# Altium schematic symbol library CPU_STM.SchLib: 336 symbols (part 2 of 6)
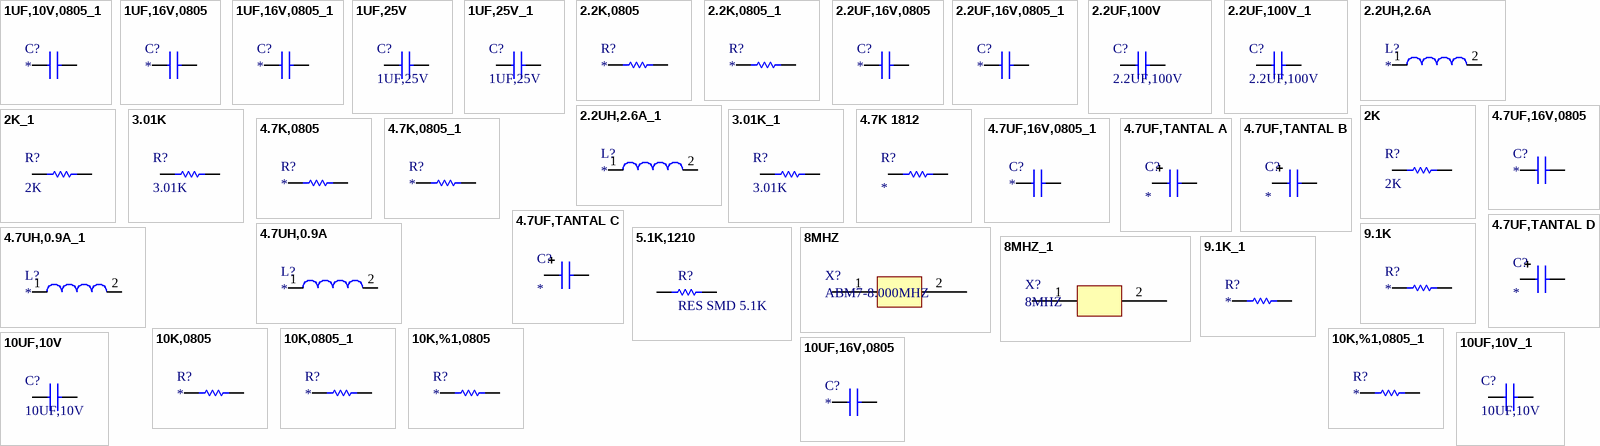
[diagram p20: symbols 1UF,10V,0805_1 to 10UF,16V,0805]

## 2K_1
designator R?, comment 2K
Thick Film Resistors - SMD 1/10watt 2.0Kohms 1%; Manufacturer: Vishay / Dale; Manufacturer Part Number: CRCW06032K00FKEA; Power Rating: 100 mW; Resistance: 2 kOhms; Temperature Coefficient: 100 PPM / K; Voltage Rating: 75 V; Case Height: 0.45 mm; Case Length: 1.55 mm; Case Width: 0.85 mm; Supplier 1: Mouser; RoHS: RoHS Compliant By Exemption; Category: Thick Film Resistors - SMD; Stock 1: 484813; Pricing 1: 1=0.119, 10=0.019, 100=0.015, 1000=0.012, 5000=0.007, 25000=0.006, 50000=0.004 (AUD); Operating Temperature Range: - 55 C to + 155 C; Package / Case: 0603 (1608 metric); Packaging: Reel; Product: Thick Film Resistors SMD; Series: CRCW; Tolerance: 1 %; Brand: Vishay / Dale; Case Code - in: 0603; Case Code - mm: 1608; Product Category: 0603 Thick Film Chip Resistors; Standard Pack Qty: 5000; RoHS - Mouser: E; Minimum Order Quantity: 1; Reeling: True; ComponentLink1URL: http://www.vishay.com/doc?20035; ComponentLink1Description: http://www.vishay.com/doc?20035; Supplier Part Number 1: 71-CRCW0603-2.0K-E3
footprint 0603 (0603_CC)
pins: 1, 2

## 3.01K
designator R?
Thick Film Resistors - SMD 1/10watt 3.01Kohms 1%; Manufacturer: Vishay / Dale; Manufacturer Part Number: CRCW06033K01FKEB; Power Rating: 100 mW; Temperature Coefficient: 100 PPM / K; Voltage Rating: 75 V; Case Height: 0.45 mm; Case Length: 1.55 mm; Case Width: 0.85 mm; Supplier 1: Mouser; RoHS: RoHS Compliant By Exemption; Category: Thick Film Resistors - SMD; Stock 1: 23974; Pricing 1: 1=0.119, 10=0.019, 100=0.015, 1000=0.012, 10000=0.007, 30000=0.006, 50000=0.004 (AUD); Operating Temperature Range: - 55 C to + 155 C; Package / Case: 0603 (1608 metric); Packaging: Reel; Product: Thick Film Resistors SMD; Resistance: 3.01 kOhms; Series: CRCW; Tolerance: 1 %; Brand: Vishay / Dale; Case Code - in: 0603; Case Code - mm: 1608; Product Category: 0603 Thick Film Chip Resistors; Standard Pack Qty: 10000; RoHS - Mouser: E; Minimum Order Quantity: 1; Reeling: True; ComponentLink1URL: http://www.vishay.com/doc?20035; ComponentLink1Description: http://www.vishay.com/doc?20035; Supplier Part Number 1: 71-CRCW06033K01FKEB
footprint 0603 (0603_CC)
pins: 1, 2

## 3.01K_1
designator R?, comment 3.01K
Thick Film Resistors - SMD 1/10watt 3.01Kohms 1%; Manufacturer: Vishay / Dale; Manufacturer Part Number: CRCW06033K01FKEB; Power Rating: 100 mW; Temperature Coefficient: 100 PPM / K; Voltage Rating: 75 V; Case Height: 0.45 mm; Case Length: 1.55 mm; Case Width: 0.85 mm; Supplier 1: Mouser; RoHS: RoHS Compliant By Exemption; Category: Thick Film Resistors - SMD; Stock 1: 23974; Pricing 1: 1=0.119, 10=0.019, 100=0.015, 1000=0.012, 10000=0.007, 30000=0.006, 50000=0.004 (AUD); Operating Temperature Range: - 55 C to + 155 C; Package / Case: 0603 (1608 metric); Packaging: Reel; Product: Thick Film Resistors SMD; Resistance: 3.01 kOhms; Series: CRCW; Tolerance: 1 %; Brand: Vishay / Dale; Case Code - in: 0603; Case Code - mm: 1608; Product Category: 0603 Thick Film Chip Resistors; Standard Pack Qty: 10000; RoHS - Mouser: E; Minimum Order Quantity: 1; Reeling: True; ComponentLink1URL: http://www.vishay.com/doc?20035; ComponentLink1Description: http://www.vishay.com/doc?20035; Supplier Part Number 1: 71-CRCW06033K01FKEB
footprint 0603 (0603_CC)
pins: 1, 2

## 4.7K 1812
designator R?
4.7K 1812
footprint 1812
pins: 1, 2

## 4.7K,0805
designator R?
BOURNS - CR0805-FX-4701GLF - RESISTOR, 4.7K, 0.125W, 1%; Product Range: BOURNS - CR Series; Resistance: 4.7; Power Rating: 125; Resistor Case Style: 0805 [2012 Metric]; Resistor Element Material: Thick Film; Temperature Coefficient: ± 100; Voltage Rating: 150; SVHC: No SVHC (16-Jun-2014); Resistor Mounting: SMD<!--FANDB--><div class="features-and-benefits-container"></div>; Supplier 1: Farnell; Manufacturer: BOURNS; Manufacturer Part Number: CR0805-FX-4701GLF; RoHS: YES; Stock 1: 20050; Pricing 1: 50=0,0312, 250=0,0247, 1000=0,0234, 5000=0,0156, 10000=0,0143 (EUR); Resistance Tolerance: ± 1%; Packaging: Cut Tape; MSL: MSL 1 - Unlimited; ComponentLink1URL: http://www.farnell.com/datasheets/1845293.pdf; ComponentLink1Description: http://www.farnell.com/datasheets/1845293.pdf; Supplier Part Number 1: 2008383
footprint R0805
pins: 1, 2

## 4.7K,0805_1
designator R?
BOURNS - CR0805-FX-4701GLF - RESISTOR, 4.7K, 0.125W, 1%; Product Range: BOURNS - CR Series; Resistance: 4.7; Power Rating: 125; Resistor Case Style: 0805 [2012 Metric]; Resistor Element Material: Thick Film; Temperature Coefficient: ± 100; Voltage Rating: 150; SVHC: No SVHC (16-Jun-2014); Resistor Mounting: SMD<!--FANDB--><div class="features-and-benefits-container"></div>; Supplier 1: Farnell; Manufacturer: BOURNS; Manufacturer Part Number: CR0805-FX-4701GLF; RoHS: YES; Stock 1: 20050; Pricing 1: 50=0,0312, 250=0,0247, 1000=0,0234, 5000=0,0156, 10000=0,0143 (EUR); Resistance Tolerance: ± 1%; Packaging: Cut Tape; MSL: MSL 1 - Unlimited; ComponentLink1URL: http://www.farnell.com/datasheets/1845293.pdf; ComponentLink1Description: http://www.farnell.com/datasheets/1845293.pdf; Supplier Part Number 1: 2008383
footprint R0805
pins: 1, 2

## 4.7UF,16V,0805
designator C?
AVX - 0805YC475KAT2A - CAP, MLCC, X7R, 4.7UF, 16V, 0805; Capacitance: 4.7; Capacitance Tolerance: ± 10%; Dielectric Characteristic: X7; Voltage Rating: 16; Ceramic Capacitor Case: 0805 [2012 Metric]; SVHC: No SVHC (16-Jun-2014); Capacitor Terminals: SMD; Supplier 1: Farnell; Manufacturer: AVX; Manufacturer Part Number: 0805YC475KAT2A; RoHS: YES; Stock 1: 22065; Pricing 1: 10=0,61, 100=0,43, 500=0,24, 1000=0,2, 2000=0,162 (EUR); Product Range: -; Operating Temperature Min: -55; Operating Temperature Max: 125; Packaging: Cut Tape; MSL: MSL 1 - Unlimited; Capacitance Tolerance ±: ± 10%; Capacitor Case Style: 0805 [2012 Metric]; Operating Temperature Range: -55°C to +125; Series: MLCC<!--FANDB--><div class="features-and-benefits-container"></div>; ComponentLink1URL: http://www.farnell.com/datasheets/1679506.pdf; ComponentLink1Description: http://www.farnell.com/datasheets/1679506.pdf; ComponentLink2URL: http://www.farnell.com/cad/1614401.zip; ComponentLink2Description: http://www.farnell.com/cad/1614401.zip; Supplier Part Number 1: 1657937RL
footprint C0805
pins: 1, 2

## 4.7UF,16V,0805_1
designator C?
AVX - 0805YC475KAT2A - CAP, MLCC, X7R, 4.7UF, 16V, 0805; Capacitance: 4.7; Capacitance Tolerance: ± 10%; Dielectric Characteristic: X7; Voltage Rating: 16; Ceramic Capacitor Case: 0805 [2012 Metric]; SVHC: No SVHC (16-Jun-2014); Capacitor Terminals: SMD; Supplier 1: Farnell; Manufacturer: AVX; Manufacturer Part Number: 0805YC475KAT2A; RoHS: YES; Stock 1: 22065; Pricing 1: 10=0,61, 100=0,43, 500=0,24, 1000=0,2, 2000=0,162 (EUR); Product Range: -; Operating Temperature Min: -55; Operating Temperature Max: 125; Packaging: Cut Tape; MSL: MSL 1 - Unlimited; Capacitance Tolerance ±: ± 10%; Capacitor Case Style: 0805 [2012 Metric]; Operating Temperature Range: -55°C to +125; Series: MLCC<!--FANDB--><div class="features-and-benefits-container"></div>; ComponentLink1URL: http://www.farnell.com/datasheets/1679506.pdf; ComponentLink1Description: http://www.farnell.com/datasheets/1679506.pdf; ComponentLink2URL: http://www.farnell.com/cad/1614401.zip; ComponentLink2Description: http://www.farnell.com/cad/1614401.zip; Supplier Part Number 1: 1657937RL
footprint C0805
pins: 1, 2

## 4.7UF,TANTAL A
designator C?
footprint Case_A
pins: 1, 2

## 4.7UF,TANTAL B
designator C?
footprint Case_B
pins: 1, 2

## 4.7UF,TANTAL C
designator C?
footprint Case_C
pins: 1, 2

## 4.7UF,TANTAL D
designator C?
footprint Case_D
pins: 1, 2

## 4.7UH,0.9A
designator L?
INDUCTOR 4.7UH 900MA SMD; Manufacturer: Bourns Inc.; Manufacturer Part Number: SRU2013-4R7Y; Type: Wirewound; Material - Core: Ferrite; Inductance: 4.7µH; Tolerance: ±30%; Current - Saturation: 750mA; Shielding: Shielded; DC Resistance (DCR): 220 mOhm Max; Q @ Freq: 10 @ 7.96MHz; Frequency - Self Resonant: 72MHz; Frequency - Test: 100kHz; Supplier 1: Digi-Key; RoHS: RoHS Compliant; Category: Inductors, Coils, Chokes; Stock 1: 2110; Pricing 1: 1=0.68, 10=0.608, 25=0.57, 50=0.494, 100=0.456, 250=0.4332, 500=0.3952 (USD); Packaging: Cut Tape (CT); Current Rating: 900mA; Operating Temperature: -40°C ~ 125°C; Mounting Type: Surface Mount; Package / Case: Non Standard; Size / Dimension: 0.110" L x 0.110" W (2.80mm x 2.80mm); Height - Seated (Max): 0.059" (1.50mm); Supplier Device Package: -; ComponentLink1URL: http://www.bourns.com/data/global/pdfs/SRU2013.pdf; ComponentLink1Description: http://www.bourns.com/data/global/pdfs/SRU2013.pdf; Supplier Part Number 1: SRU2013-4R7YCT-ND
footprint 4.7UH
pins: 1, 2

## 4.7UH,0.9A_1
designator L?
INDUCTOR 4.7UH 900MA SMD; Manufacturer: Bourns Inc.; Manufacturer Part Number: SRU2013-4R7Y; Type: Wirewound; Material - Core: Ferrite; Inductance: 4.7µH; Tolerance: ±30%; Current - Saturation: 750mA; Shielding: Shielded; DC Resistance (DCR): 220 mOhm Max; Q @ Freq: 10 @ 7.96MHz; Frequency - Self Resonant: 72MHz; Frequency - Test: 100kHz; Supplier 1: Digi-Key; RoHS: RoHS Compliant; Category: Inductors, Coils, Chokes; Stock 1: 2110; Pricing 1: 1=0.68, 10=0.608, 25=0.57, 50=0.494, 100=0.456, 250=0.4332, 500=0.3952 (USD); Packaging: Cut Tape (CT); Current Rating: 900mA; Operating Temperature: -40°C ~ 125°C; Mounting Type: Surface Mount; Package / Case: Non Standard; Size / Dimension: 0.110" L x 0.110" W (2.80mm x 2.80mm); Height - Seated (Max): 0.059" (1.50mm); Supplier Device Package: -; ComponentLink1URL: http://www.bourns.com/data/global/pdfs/SRU2013.pdf; ComponentLink1Description: http://www.bourns.com/data/global/pdfs/SRU2013.pdf; Supplier Part Number 1: SRU2013-4R7YCT-ND
footprint 4.7UH
pins: 1, 2

## 5.1K,1210
designator R?, comment RES SMD 5.1K
RES SMD 5.1K OHM 5% 1/2W 1210; Manufacturer: Panasonic Electronic Components; Manufacturer Part Number: ERJ-14YJ512U; Power (Watts): 0.5W, 1/2W; Temperature Coefficient: ±200ppm/°C; Supplier 1: Digi-Key; RoHS: RoHS Compliant; Category: Resistors; Stock 1: 20000; Pricing 1: 5000=0.018, 10000=0.0168, 25000=0.01596, 50000=0.01564, 125000=0.0153 (USD); Packaging: Tape & Reel (TR); Resistance (Ohms): 5.1k; Tolerance: ±5%; Composition: Thick Film; Features: Automotive AEC-Q200; Operating Temperature: -55°C ~ 155°C; Package / Case: 1210 (3225 Metric); Supplier Device Package: 1210; Size / Dimension: 0.126" L x 0.098" W (3.20mm x 2.50mm); Height: 0.028" (0.70mm); Number of Terminations: 2; ComponentLink1URL: http://industrial.panasonic.com/www-cgi/jvcr13pz.cgi?E+PZ+3+AOA0001+ERJ14YJ512U+7+WW; ComponentLink1Description: http://industrial.panasonic.com/www-cgi/jvcr13pz.cgi?E+PZ+3+AOA0001+ERJ14YJ512U+7+WW; Supplier Part Number 1: P5.1KVTR-ND
footprint R1210
pins: 1, 2

## 8MHZ
designator X?, comment ABM7-8.000MHZ
CRYSTAL 8.0000MHZ 18PF SMD; Manufacturer: Abracon LLC; Manufacturer Part Number: ABM7-8.000MHZ-D2Y-T; Frequency: 8MHz; Frequency Stability: ±30ppm; Frequency Tolerance: ±20ppm; ESR (Equivalent Series Resistance): 100 Ohm; Operating Mode: Fundamental; Supplier 1: Digi-Key; RoHS: RoHS Compliant; Category: Crystals and Oscillators; Stock 1: 111842; Pricing 1: 1=0.76, 10=0.678, 50=0.6328, 100=0.56, 500=0.5292 (USD); Packaging: Cut Tape (CT); Type: MHz Crystal; Load Capacitance: 18pF; Operating Temperature: -40°C ~ 85°C; Ratings: -; Mounting Type: Surface Mount; Package / Case: 2-SMD, No Lead (DFN, LCC); Size / Dimension: 0.236" L x 0.138" W (6.00mm x 3.50mm); Height: 0.055" (1.40mm); ComponentLink1URL: http://www.abracon.com/Resonators/abm7.pdf; ComponentLink1Description: http://www.abracon.com/Resonators/abm7.pdf; Supplier Part Number 1: 535-9831-1-ND
footprint cristal
pins: 1, 2

## 8MHZ_1
designator X?, comment 8MHZ
footprint cristal
pins: 1, 2

## 9.1K
designator R?
RES 9.1K OHM 1/8W 1% 0805 SMD; Manufacturer: Panasonic Electronic Components; Manufacturer Part Number: ERJ-6ENF9101V; Power (Watts): 0.125W, 1/8W; Temperature Coefficient: ±100ppm/°C; Supplier 1: Digi-Key; RoHS: RoHS Compliant; Category: Resistors; Stock 1: 35000; Pricing 1: 5000=0.00475, 10000=0.00413, 25000=0.00363, 50000=0.00333, 125000=0.00326 (USD); Packaging: Tape & Reel (TR); Resistance (Ohms): 9.1k; Tolerance: ±1%; Composition: Thick Film; Features: Automotive AEC-Q200 Qualified; Package / Case: 0805 (2012 Metric); Supplier Device Package: 0805; Size / Dimension: 0.079" L x 0.049" W (2.00mm x 1.25mm); Height: 0.028" (0.70mm); Number of Terminations: 2; ComponentLink1URL: http://industrial.panasonic.com/www-cgi/jvcr13pz.cgi?E+PZ+3+AOA0002+ERJ6ENF9101V+7+WW; ComponentLink1Description: http://industrial.panasonic.com/www-cgi/jvcr13pz.cgi?E+PZ+3+AOA0002+ERJ6ENF9101V+7+WW; Supplier Part Number 1: P9.10KCTR-ND
footprint R0805
pins: 1, 2

## 9.1K_1
designator R?
RES 9.1K OHM 1/8W 1% 0805 SMD; Manufacturer: Panasonic Electronic Components; Manufacturer Part Number: ERJ-6ENF9101V; Power (Watts): 0.125W, 1/8W; Temperature Coefficient: ±100ppm/°C; Supplier 1: Digi-Key; RoHS: RoHS Compliant; Category: Resistors; Stock 1: 35000; Pricing 1: 5000=0.00475, 10000=0.00413, 25000=0.00363, 50000=0.00333, 125000=0.00326 (USD); Packaging: Tape & Reel (TR); Resistance (Ohms): 9.1k; Tolerance: ±1%; Composition: Thick Film; Features: Automotive AEC-Q200 Qualified; Package / Case: 0805 (2012 Metric); Supplier Device Package: 0805; Size / Dimension: 0.079" L x 0.049" W (2.00mm x 1.25mm); Height: 0.028" (0.70mm); Number of Terminations: 2; ComponentLink1URL: http://industrial.panasonic.com/www-cgi/jvcr13pz.cgi?E+PZ+3+AOA0002+ERJ6ENF9101V+7+WW; ComponentLink1Description: http://industrial.panasonic.com/www-cgi/jvcr13pz.cgi?E+PZ+3+AOA0002+ERJ6ENF9101V+7+WW; Supplier Part Number 1: P9.10KCTR-ND
footprint R0805
pins: 1, 2

## 10K,0805
designator R?
BOURNS - CR0805-FX-1002GLF - RESISTOR, 10K, 0.125W, 1%; Product Range: BOURNS - CR Series; Resistance: 10; Power Rating: 125; Resistor Case Style: 0805 [2012 Metric]; Resistor Element Material: Thick Film; Temperature Coefficient: ± 100; Voltage Rating: 150; SVHC: No SVHC (16-Jun-2014); Resistor Mounting: SMD<!--FANDB--><div class="features-and-benefits-container"></div>; Supplier 1: Farnell; Manufacturer: BOURNS; Manufacturer Part Number: CR0805-FX-1002GLF; RoHS: YES; Stock 1: 23336; Pricing 1: 50=0,0299, 250=0,0234, 1000=0,0221, 5000=0,0156, 10000=0,0143 (EUR); Resistance Tolerance: ± 1%; Packaging: Cut Tape; MSL: MSL 1 - Unlimited; ComponentLink1URL: http://www.farnell.com/datasheets/1845293.pdf; ComponentLink1Description: http://www.farnell.com/datasheets/1845293.pdf; Supplier Part Number 1: 2008384
footprint R0805
pins: 1, 2

## 10K,0805_1
designator R?
BOURNS - CR0805-FX-1002GLF - RESISTOR, 10K, 0.125W, 1%; Product Range: BOURNS - CR Series; Resistance: 10; Power Rating: 125; Resistor Case Style: 0805 [2012 Metric]; Resistor Element Material: Thick Film; Temperature Coefficient: ± 100; Voltage Rating: 150; SVHC: No SVHC (16-Jun-2014); Resistor Mounting: SMD<!--FANDB--><div class="features-and-benefits-container"></div>; Supplier 1: Farnell; Manufacturer: BOURNS; Manufacturer Part Number: CR0805-FX-1002GLF; RoHS: YES; Stock 1: 23336; Pricing 1: 50=0,0299, 250=0,0234, 1000=0,0221, 5000=0,0156, 10000=0,0143 (EUR); Resistance Tolerance: ± 1%; Packaging: Cut Tape; MSL: MSL 1 - Unlimited; ComponentLink1URL: http://www.farnell.com/datasheets/1845293.pdf; ComponentLink1Description: http://www.farnell.com/datasheets/1845293.pdf; Supplier Part Number 1: 2008384
footprint R0805
pins: 1, 2

## 10K,%1,0805
designator R?
WELWYN - CR0805F-10KFI - RESISTOR, CHIP, 10K, 0.125W, 1%; Supplier 1: Farnell; Manufacturer: WELWYN; Manufacturer Part Number: CR0805F-10KFI; RoHS: YES; Stock 1: 246; Pricing 1: 1=0,988, 50=0,884, 100=0,832, 500=0,78, 1000=0,741 (EUR); ComponentLink1URL: http://www.farnell.com/datasheets/1720562.pdf; ComponentLink1Description: http://www.farnell.com/datasheets/1720562.pdf; Supplier Part Number 1: 2341038
footprint R0805
pins: 1, 2

## 10K,%1,0805_1
designator R?
WELWYN - CR0805F-10KFI - RESISTOR, CHIP, 10K, 0.125W, 1%; Supplier 1: Farnell; Manufacturer: WELWYN; Manufacturer Part Number: CR0805F-10KFI; RoHS: YES; Stock 1: 246; Pricing 1: 1=0,988, 50=0,884, 100=0,832, 500=0,78, 1000=0,741 (EUR); ComponentLink1URL: http://www.farnell.com/datasheets/1720562.pdf; ComponentLink1Description: http://www.farnell.com/datasheets/1720562.pdf; Supplier Part Number 1: 2341038
footprint R0805
pins: 1, 2

## 10UF,10V
designator C?
Multilayer Ceramic Capacitors MLCC - SMD/SMT 0805 10uF 10volts X7R 10%; Manufacturer: Murata Electronics; Manufacturer Part Number: GRM21BR71A106KE51L; Type: General Purpose MLCC; Case Height: 1.25 mm; Case Length: 2 mm; Temperature Coefficient / Code: +/- 15 %; Supplier 1: Mouser; RoHS: RoHS Compliant; Category: Multilayer Ceramic Capacitors MLCC - SMD/SMT; Stock 1: 248046; Pricing 1: 1=0.876, 10=0.506, 100=0.310, 1000=0.285, 3000=0.177, 9000=0.174, 24000=0.162 (AUD); Capacitance: 10 uF; Operating Temperature Range: - 55 C to + 125 C; Package / Case: 0805 (2012 metric); Packaging: Reel; Product: General Type MLCCs; Series: GRM; Termination Style: SMD/SMT; Tolerance: 10 %; Voltage Rating DC: 10 V; Brand: Murata Electronics; Case Code - in: 0805; Case Code - mm: 2012; Case Width: 1.25 mm; Dielectric: X7R; Maximum Operating Temperature: + 125 C; Minimum Operating Temperature: - 55 C; Product Category: High Capacitance SMD Ceramic Chip Capacitors; Standard Pack Qty: 3000; RoHS - Mouser: Y; Minimum Order Quantity: 1; Reeling: True; ComponentLink1URL: http://www.mouser.com/ds/2/281/c02e-2905.pdf; ComponentLink1Description: http://www.mouser.com/ds/2/281/c02e-2905.pdf; Supplier Part Number 1: 81-GRM21BR71A106KE51
footprint 0805
pins: 1, 2

## 10UF,10V_1
designator C?, comment 10UF,10V
Multilayer Ceramic Capacitors MLCC - SMD/SMT 0805 10uF 10volts X7R 10%; Manufacturer: Murata Electronics; Manufacturer Part Number: GRM21BR71A106KE51L; Type: General Purpose MLCC; Case Height: 1.25 mm; Case Length: 2 mm; Temperature Coefficient / Code: +/- 15 %; Supplier 1: Mouser; RoHS: RoHS Compliant; Category: Multilayer Ceramic Capacitors MLCC - SMD/SMT; Stock 1: 248046; Pricing 1: 1=0.876, 10=0.506, 100=0.310, 1000=0.285, 3000=0.177, 9000=0.174, 24000=0.162 (AUD); Capacitance: 10 uF; Operating Temperature Range: - 55 C to + 125 C; Package / Case: 0805 (2012 metric); Packaging: Reel; Product: General Type MLCCs; Series: GRM; Termination Style: SMD/SMT; Tolerance: 10 %; Voltage Rating DC: 10 V; Brand: Murata Electronics; Case Code - in: 0805; Case Code - mm: 2012; Case Width: 1.25 mm; Dielectric: X7R; Maximum Operating Temperature: + 125 C; Minimum Operating Temperature: - 55 C; Product Category: High Capacitance SMD Ceramic Chip Capacitors; Standard Pack Qty: 3000; RoHS - Mouser: Y; Minimum Order Quantity: 1; Reeling: True; ComponentLink1URL: http://www.mouser.com/ds/2/281/c02e-2905.pdf; ComponentLink1Description: http://www.mouser.com/ds/2/281/c02e-2905.pdf; Supplier Part Number 1: 81-GRM21BR71A106KE51
footprint 0805
pins: 1, 2

## 10UF,16V,0805
designator C?
AVX - 0805YD106KAT2A - CAP, MLCC, X5R, 10UF, 16V, 0805; Capacitance: 10; Capacitance Tolerance: ± 10%; Dielectric Characteristic: X5; Voltage Rating: 16; Ceramic Capacitor Case: 0805 [2012 Metric]; SVHC: No SVHC (16-Jun-2014); Capacitor Terminals: SMD; Supplier 1: Farnell; Manufacturer: AVX; Manufacturer Part Number: 0805YD106KAT2A; RoHS: YES; Stock 1: 32118; Pricing 1: 10=0,25, 100=0,23, 500=0,21, 1000=0,182, 2000=0,162 (EUR); Product Range: -; Operating Temperature Min: -55; Operating Temperature Max: 85; Packaging: Cut Tape; MSL: MSL 1 - Unlimited; Capacitance Tolerance ±: ± 10%; Capacitor Case Style: 0805 [2012 Metric]; Operating Temperature Range: -55°C to +85; Series: MLCC<!--FANDB--><div class="features-and-benefits-container"></div>; ComponentLink1URL: http://www.farnell.com/datasheets/1666675.pdf; ComponentLink1Description: http://www.farnell.com/datasheets/1666675.pdf; ComponentLink2URL: http://www.farnell.com/cad/1614404.zip; ComponentLink2Description: http://www.farnell.com/cad/1614404.zip; Supplier Part Number 1: 1658880RL
footprint 0805
pins: 1, 2

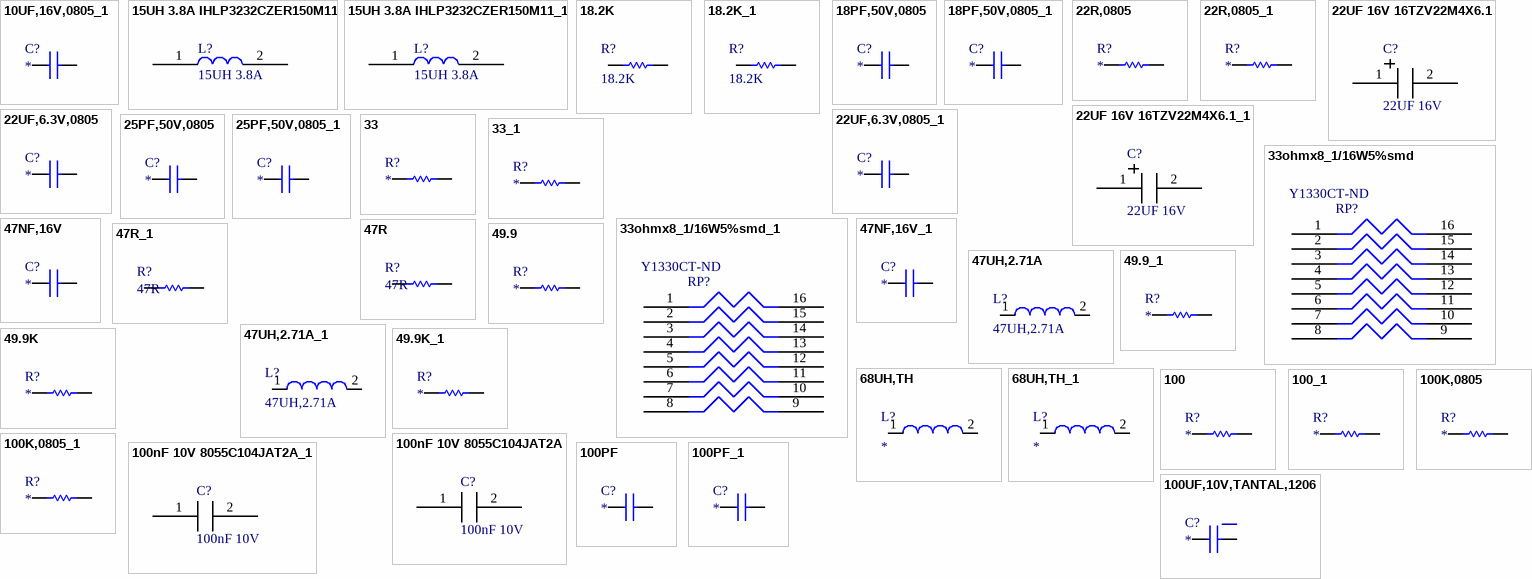
[diagram p2: symbols 10UF,16V,0805_1 to 100UF,10V,TANTAL,1206]

## 10UF,16V,0805_1
designator C?
AVX - 0805YD106KAT2A - CAP, MLCC, X5R, 10UF, 16V, 0805; Capacitance: 10; Capacitance Tolerance: ± 10%; Dielectric Characteristic: X5; Voltage Rating: 16; Ceramic Capacitor Case: 0805 [2012 Metric]; SVHC: No SVHC (16-Jun-2014); Capacitor Terminals: SMD; Supplier 1: Farnell; Manufacturer: AVX; Manufacturer Part Number: 0805YD106KAT2A; RoHS: YES; Stock 1: 32118; Pricing 1: 10=0,25, 100=0,23, 500=0,21, 1000=0,182, 2000=0,162 (EUR); Product Range: -; Operating Temperature Min: -55; Operating Temperature Max: 85; Packaging: Cut Tape; MSL: MSL 1 - Unlimited; Capacitance Tolerance ±: ± 10%; Capacitor Case Style: 0805 [2012 Metric]; Operating Temperature Range: -55°C to +85; Series: MLCC<!--FANDB--><div class="features-and-benefits-container"></div>; ComponentLink1URL: http://www.farnell.com/datasheets/1666675.pdf; ComponentLink1Description: http://www.farnell.com/datasheets/1666675.pdf; ComponentLink2URL: http://www.farnell.com/cad/1614404.zip; ComponentLink2Description: http://www.farnell.com/cad/1614404.zip; Supplier Part Number 1: 1658880RL
footprint 0805
pins: 1, 2

## 15UH 3.8A IHLP3232CZER150M11
designator L?, comment 15UH 3.8A
VISHAY DALE - IHLP3232CZER150M11 - INDUCTOR, IHLP-3232CZ-11, 15UH 20%; Supplier 1: Farnell; Manufacturer: VISHAY DALE; Manufacturer Part Number: IHLP3232CZER150M11; RoHS: YES; Stock 1: 86; Pricing 1: 1=2,24, 10=1,52, 50=1,4, 100=1,24, 250=1,09 (EUR); ComponentLink1URL: http://www.vishay.com/docs/34321/ihlp3232cz11.pdf; ComponentLink1Description: http://www.vishay.com/docs/34321/ihlp3232cz11.pdf; Supplier Part Number 1: 2056556
footprint indkrt_2
pins: 1, 2

## 15UH 3.8A IHLP3232CZER150M11_1
designator L?, comment 15UH 3.8A
VISHAY DALE - IHLP3232CZER150M11 - INDUCTOR, IHLP-3232CZ-11, 15UH 20%; Supplier 1: Farnell; Manufacturer: VISHAY DALE; Manufacturer Part Number: IHLP3232CZER150M11; RoHS: YES; Stock 1: 86; Pricing 1: 1=2,24, 10=1,52, 50=1,4, 100=1,24, 250=1,09 (EUR); ComponentLink1URL: http://www.vishay.com/docs/34321/ihlp3232cz11.pdf; ComponentLink1Description: http://www.vishay.com/docs/34321/ihlp3232cz11.pdf; Supplier Part Number 1: 2056556
footprint indkrt_2
pins: 1, 2

## 18.2K
designator R?
Thick Film Resistors - SMD 1/10watt 18.2Kohms 1%; Manufacturer: Vishay / Dale; Manufacturer Part Number: CRCW060318K2FKEA; Power Rating: 100 mW; Temperature Coefficient: 100 PPM / K; Voltage Rating: 75 V; Case Height: 0.45 mm; Case Length: 1.55 mm; Case Width: 0.85 mm; Supplier 1: Mouser; RoHS: RoHS Compliant By Exemption; Category: Thick Film Resistors - SMD; Stock 1: 22473; Pricing 1: 1=0.119, 10=0.019, 100=0.015, 1000=0.012, 5000=0.007, 25000=0.006, 50000=0.004 (AUD); Operating Temperature Range: - 55 C to + 155 C; Package / Case: 0603 (1608 metric); Packaging: Reel; Product: Thick Film Resistors SMD; Resistance: 18.2 kOhms; Series: CRCW; Tolerance: 1 %; Brand: Vishay / Dale; Case Code - in: 0603; Case Code - mm: 1608; Product Category: 0603 Thick Film Chip Resistors; Standard Pack Qty: 5000; RoHS - Mouser: E; Minimum Order Quantity: 1; Reeling: True; ComponentLink1URL: http://www.vishay.com/doc?20035; ComponentLink1Description: http://www.vishay.com/doc?20035; Supplier Part Number 1: 71-CRCW0603-18.2K-E3
footprint 0603 (0603_CC)
pins: 1, 2

## 18.2K_1
designator R?, comment 18.2K
Thick Film Resistors - SMD 1/10watt 18.2Kohms 1%; Manufacturer: Vishay / Dale; Manufacturer Part Number: CRCW060318K2FKEA; Power Rating: 100 mW; Temperature Coefficient: 100 PPM / K; Voltage Rating: 75 V; Case Height: 0.45 mm; Case Length: 1.55 mm; Case Width: 0.85 mm; Supplier 1: Mouser; RoHS: RoHS Compliant By Exemption; Category: Thick Film Resistors - SMD; Stock 1: 22473; Pricing 1: 1=0.119, 10=0.019, 100=0.015, 1000=0.012, 5000=0.007, 25000=0.006, 50000=0.004 (AUD); Operating Temperature Range: - 55 C to + 155 C; Package / Case: 0603 (1608 metric); Packaging: Reel; Product: Thick Film Resistors SMD; Resistance: 18.2 kOhms; Series: CRCW; Tolerance: 1 %; Brand: Vishay / Dale; Case Code - in: 0603; Case Code - mm: 1608; Product Category: 0603 Thick Film Chip Resistors; Standard Pack Qty: 5000; RoHS - Mouser: E; Minimum Order Quantity: 1; Reeling: True; ComponentLink1URL: http://www.vishay.com/doc?20035; ComponentLink1Description: http://www.vishay.com/doc?20035; Supplier Part Number 1: 71-CRCW0603-18.2K-E3
footprint 0603 (0603_CC)
pins: 1, 2

## 18PF,50V,0805
designator C?
MULTICOMP - MC0805N180J500CT - CAP, MLCC, C0G/NP0, 18PF, 50V,0805, REEL; Product Range: MULTICOMP - MC Series; Capacitance: 18; Capacitance Tolerance: ± 5%; Voltage Rating: 50; Ceramic Capacitor Case: 0805 [2012 Metric]; Capacitor Terminals: SMD; Reel Quantity: 4000; Supplier 1: Farnell; Manufacturer: MULTICOMP; Manufacturer Part Number: MC0805N180J500CT; RoHS: YES; Pricing 1: 4000=0,0072, 20000=0,0063, 40000=0,0055 (EUR); Dielectric Characteristic: C0G / NP0; Operating Temperature Min: -55; Operating Temperature Max: 125; Packaging: Tape & Reel; MSL: -; Capacitance Tolerance ±: ± 5%; Capacitor Case Style: 0805 [2012 Metric]; ComponentLink1URL: http://www.farnell.com/datasheets/1792107.pdf; ComponentLink1Description: http://www.farnell.com/datasheets/1792107.pdf; Supplier Part Number 1: 2310683
footprint C0805
pins: 1, 2

## 18PF,50V,0805_1
designator C?
MULTICOMP - MC0805N180J500CT - CAP, MLCC, C0G/NP0, 18PF, 50V,0805, REEL; Product Range: MULTICOMP - MC Series; Capacitance: 18; Capacitance Tolerance: ± 5%; Voltage Rating: 50; Ceramic Capacitor Case: 0805 [2012 Metric]; Capacitor Terminals: SMD; Reel Quantity: 4000; Supplier 1: Farnell; Manufacturer: MULTICOMP; Manufacturer Part Number: MC0805N180J500CT; RoHS: YES; Pricing 1: 4000=0,0072, 20000=0,0063, 40000=0,0055 (EUR); Dielectric Characteristic: C0G / NP0; Operating Temperature Min: -55; Operating Temperature Max: 125; Packaging: Tape & Reel; MSL: -; Capacitance Tolerance ±: ± 5%; Capacitor Case Style: 0805 [2012 Metric]; ComponentLink1URL: http://www.farnell.com/datasheets/1792107.pdf; ComponentLink1Description: http://www.farnell.com/datasheets/1792107.pdf; Supplier Part Number 1: 2310683
footprint C0805
pins: 1, 2

## 22R,0805
designator R?
PANASONIC - ERJP06F22R0V - RESISTOR, THICK FILM, 22 OHM, 0.5W, 1%; Product Range: PANASONIC - ERJ Series; Resistance: 22; Power Rating: 500; Resistor Case Style: 0805 [2012 Metric]; Temperature Coefficient: ± 300; Voltage Rating: 400; SVHC: No SVHC (16-Dec-2013); External Depth: 1.25; External Length / Height: 0.6; External Width: 2; Overload Voltage: 600; Reel Quantity: 5000; Resistor Mounting: SMD; Supplier 1: Farnell; Manufacturer: PANASONIC; Manufacturer Part Number: ERJP06F22R0V; RoHS: YES; Stock 1: 4425; Pricing 1: 25=0,139, 100=0,113, 500=0,0897, 1000=0,0676, 5000=0,065 (EUR); Resistance Tolerance: ± 1%; Resistor Element Material: Thick Film; Packaging: Cut Tape; MSL: -; No. of Pins: 2; Operating Temperature Max: 155; Operating Temperature Min: -55; Operating Temperature Range: -55°C to +155; Series: ERJP<!--FANDB--><div class="features-and-benefits-container"></div>; ComponentLink1URL: http://www.farnell.com/datasheets/1801181.pdf; ComponentLink1Description: http://www.farnell.com/datasheets/1801181.pdf; ComponentLink2URL: http://www.farnell.com/datasheets/1718548.pdf; ComponentLink2Description: http://www.farnell.com/datasheets/1718548.pdf; ComponentLink3URL: http://www.farnell.com/cad/1697897.zip; ComponentLink3Description: http://www.farnell.com/cad/1697897.zip; Supplier Part Number 1: 1750733
footprint R0805
pins: 1, 2

## 22R,0805_1
designator R?
PANASONIC - ERJP06F22R0V - RESISTOR, THICK FILM, 22 OHM, 0.5W, 1%; Product Range: PANASONIC - ERJ Series; Resistance: 22; Power Rating: 500; Resistor Case Style: 0805 [2012 Metric]; Temperature Coefficient: ± 300; Voltage Rating: 400; SVHC: No SVHC (16-Dec-2013); External Depth: 1.25; External Length / Height: 0.6; External Width: 2; Overload Voltage: 600; Reel Quantity: 5000; Resistor Mounting: SMD; Supplier 1: Farnell; Manufacturer: PANASONIC; Manufacturer Part Number: ERJP06F22R0V; RoHS: YES; Stock 1: 4425; Pricing 1: 25=0,139, 100=0,113, 500=0,0897, 1000=0,0676, 5000=0,065 (EUR); Resistance Tolerance: ± 1%; Resistor Element Material: Thick Film; Packaging: Cut Tape; MSL: -; No. of Pins: 2; Operating Temperature Max: 155; Operating Temperature Min: -55; Operating Temperature Range: -55°C to +155; Series: ERJP<!--FANDB--><div class="features-and-benefits-container"></div>; ComponentLink1URL: http://www.farnell.com/datasheets/1801181.pdf; ComponentLink1Description: http://www.farnell.com/datasheets/1801181.pdf; ComponentLink2URL: http://www.farnell.com/datasheets/1718548.pdf; ComponentLink2Description: http://www.farnell.com/datasheets/1718548.pdf; ComponentLink3URL: http://www.farnell.com/cad/1697897.zip; ComponentLink3Description: http://www.farnell.com/cad/1697897.zip; Supplier Part Number 1: 1750733
footprint R0805
pins: 1, 2

## 22UF 16V 16TZV22M4X6.1
designator C?, comment 22UF 16V
RUBYCON - 16TZV22M4X6.1 - CAP, ALU ELEC, 22UF, 16V, SMD; Product Range: RUBYCON - TZV Series; Capacitance: 22; Voltage Rating: 16; AE Capacitor Case: Radial Can - SMD; Ripple Current AC: 90; Lifetime @ Temperature: 2000 hours @ 105; SVHC: No SVHC (16-Dec-2013); Capacitance Tolerance: ± 20%; Impedance: 1.35; Supplier 1: Farnell; Manufacturer: RUBYCON; Manufacturer Part Number: 16TZV22M4X6.1; RoHS: YES; Stock 1: 1492; Pricing 1: 1=0,186, 10=0,17, 50=0,157, 100=0,143, 1000=0,13, 2000=0,104 (EUR); Diameter: 4; ESR: -; Height: 6.1; Packaging: Cut Tape; Operating Temperature Min: -55; Operating Temperature Max: 105; MSL: MSL 1 - Unlimited; Capacitance Tolerance ±: ± 20%; Capacitor Case Style: Radial Can - SMD; ComponentLink1URL: http://www.farnell.com/datasheets/1725814.pdf; ComponentLink1Description: http://www.farnell.com/datasheets/1725814.pdf; Supplier Part Number 1: 2346365RL
footprint CAPAE430X610N
pins: 1 14, 2 15

## 22UF 16V 16TZV22M4X6.1_1
designator C?, comment 22UF 16V
RUBYCON - 16TZV22M4X6.1 - CAP, ALU ELEC, 22UF, 16V, SMD; Product Range: RUBYCON - TZV Series; Capacitance: 22; Voltage Rating: 16; AE Capacitor Case: Radial Can - SMD; Ripple Current AC: 90; Lifetime @ Temperature: 2000 hours @ 105; SVHC: No SVHC (16-Dec-2013); Capacitance Tolerance: ± 20%; Impedance: 1.35; Supplier 1: Farnell; Manufacturer: RUBYCON; Manufacturer Part Number: 16TZV22M4X6.1; RoHS: YES; Stock 1: 1492; Pricing 1: 1=0,186, 10=0,17, 50=0,157, 100=0,143, 1000=0,13, 2000=0,104 (EUR); Diameter: 4; ESR: -; Height: 6.1; Packaging: Cut Tape; Operating Temperature Min: -55; Operating Temperature Max: 105; MSL: MSL 1 - Unlimited; Capacitance Tolerance ±: ± 20%; Capacitor Case Style: Radial Can - SMD; ComponentLink1URL: http://www.farnell.com/datasheets/1725814.pdf; ComponentLink1Description: http://www.farnell.com/datasheets/1725814.pdf; Supplier Part Number 1: 2346365RL
footprint CAPAE430X610N
pins: 1 14, 2 15

## 22UF,6.3V,0805
designator C?
CAP CER 22UF 6.3V 10% X5R 0805; Manufacturer: Samsung Electro-Mechanics America, Inc; Manufacturer Part Number: CL21A226KQQNNNE; Capacitance: 22µF; Supplier 1: Digi-Key; RoHS: RoHS Compliant; Category: Capacitors; Stock 1: 218754; Pricing 1: 1=0.27, 10=0.182, 25=0.132, 50=0.11, 100=0.0924, 250=0.0748, 500=0.066, 1000=0.0561 (USD); Packaging: Digi-Reel®; Tolerance: ±10%; Voltage - Rated: 6.3V; Temperature Coefficient: X5R; Mounting Type: Surface Mount, MLCC; Operating Temperature: -55°C ~ 85°C; Applications: General Purpose; Ratings: -; Package / Case: 0805 (2012 Metric); Size / Dimension: 0.079" L x 0.049" W (2.00mm x 1.25mm); Height - Seated (Max): -; Thickness (Max): 0.055" (1.40mm); Lead Spacing: -; Features: -; Lead Style: -; ComponentLink1URL: http://www.samsungsem.com/servlet/FileDownload?type=spec&file=CL21A226KQQNNNE.pdf; ComponentLink1Description: http://www.samsungsem.com/servlet/FileDownload?type=spec&file=CL21A226KQQNNNE.pdf; Supplier Part Number 1: 1276-2907-6-ND
footprint 0805
pins: 1, 2

## 22UF,6.3V,0805_1
designator C?
CAP CER 22UF 6.3V 10% X5R 0805; Manufacturer: Samsung Electro-Mechanics America, Inc; Manufacturer Part Number: CL21A226KQQNNNE; Capacitance: 22µF; Supplier 1: Digi-Key; RoHS: RoHS Compliant; Category: Capacitors; Stock 1: 218754; Pricing 1: 1=0.27, 10=0.182, 25=0.132, 50=0.11, 100=0.0924, 250=0.0748, 500=0.066, 1000=0.0561 (USD); Packaging: Digi-Reel®; Tolerance: ±10%; Voltage - Rated: 6.3V; Temperature Coefficient: X5R; Mounting Type: Surface Mount, MLCC; Operating Temperature: -55°C ~ 85°C; Applications: General Purpose; Ratings: -; Package / Case: 0805 (2012 Metric); Size / Dimension: 0.079" L x 0.049" W (2.00mm x 1.25mm); Height - Seated (Max): -; Thickness (Max): 0.055" (1.40mm); Lead Spacing: -; Features: -; Lead Style: -; ComponentLink1URL: http://www.samsungsem.com/servlet/FileDownload?type=spec&file=CL21A226KQQNNNE.pdf; ComponentLink1Description: http://www.samsungsem.com/servlet/FileDownload?type=spec&file=CL21A226KQQNNNE.pdf; Supplier Part Number 1: 1276-2907-6-ND
footprint 0805
ibis Model Name (Model Description)
3D model Model Name (Model Description)
pins: 1, 2

## 25PF,50V,0805
designator C?
CAP CER 25PF 50V 5% NP0 0805; Manufacturer: Samsung Electro-Mechanics America, Inc; Manufacturer Part Number: CL21C250JBANNNC; Temperature Coefficient: C0G, NP0; Supplier 1: Digi-Key; RoHS: RoHS Compliant; Category: Capacitors; Stock 1: 7744; Pricing 1: 1=0.25, 10=0.173, 25=0.126, 50=0.105, 100=0.0882, 250=0.0714, 500=0.063, 1000=0.05355 (USD); Packaging: Cut Tape (CT); Capacitance: 25pF; Tolerance: ±5%; Voltage - Rated: 50V; Mounting Type: Surface Mount, MLCC; Operating Temperature: -55°C ~ 125°C; Applications: General Purpose; Ratings: -; Package / Case: 0805 (2012 Metric); Size / Dimension: 0.079" L x 0.049" W (2.00mm x 1.25mm); Height - Seated (Max): -; Thickness (Max): 0.030" (0.75mm); Lead Spacing: -; Features: -; Lead Style: -; ComponentLink1URL: http://www.samsungsem.com/servlet/FileDownload?type=spec&file=CL21C250JBANNNC.pdf; ComponentLink1Description: http://www.samsungsem.com/servlet/FileDownload?type=spec&file=CL21C250JBANNNC.pdf; Supplier Part Number 1: 1276-2621-1-ND
footprint 0805
pins: 1, 2

## 25PF,50V,0805_1
designator C?
CAP CER 25PF 50V 5% NP0 0805; Manufacturer: Samsung Electro-Mechanics America, Inc; Manufacturer Part Number: CL21C250JBANNNC; Temperature Coefficient: C0G, NP0; Supplier 1: Digi-Key; RoHS: RoHS Compliant; Category: Capacitors; Stock 1: 7744; Pricing 1: 1=0.25, 10=0.173, 25=0.126, 50=0.105, 100=0.0882, 250=0.0714, 500=0.063, 1000=0.05355 (USD); Packaging: Cut Tape (CT); Capacitance: 25pF; Tolerance: ±5%; Voltage - Rated: 50V; Mounting Type: Surface Mount, MLCC; Operating Temperature: -55°C ~ 125°C; Applications: General Purpose; Ratings: -; Package / Case: 0805 (2012 Metric); Size / Dimension: 0.079" L x 0.049" W (2.00mm x 1.25mm); Height - Seated (Max): -; Thickness (Max): 0.030" (0.75mm); Lead Spacing: -; Features: -; Lead Style: -; ComponentLink1URL: http://www.samsungsem.com/servlet/FileDownload?type=spec&file=CL21C250JBANNNC.pdf; ComponentLink1Description: http://www.samsungsem.com/servlet/FileDownload?type=spec&file=CL21C250JBANNNC.pdf; Supplier Part Number 1: 1276-2621-1-ND
footprint 0805
pins: 1, 2

## 33
designator R?
MULTICOMP - MC0805S8F330JT5E - RESISTOR, THICK FILM, 33 OHM, 125mW, 1%; Supplier 1: Farnell; Manufacturer: MULTICOMP; Manufacturer Part Number: MC0805S8F330JT5E; RoHS: YES; Stock 1: 821; Pricing 1: 1=0,003, 50=0,001, 200=0,001, 1000=0,001 (EUR); ComponentLink1URL: http://www.newark.com/pdfs/datasheets/spc/TA-677.pdf; ComponentLink1Description: http://www.newark.com/pdfs/datasheets/spc/TA-677.pdf; Supplier Part Number 1: 1631399
footprint 0402
pins: 1, 2

## 33_1
designator R?
MULTICOMP - MC0805S8F330JT5E - RESISTOR, THICK FILM, 33 OHM, 125mW, 1%; Supplier 1: Farnell; Manufacturer: MULTICOMP; Manufacturer Part Number: MC0805S8F330JT5E; RoHS: YES; Stock 1: 821; Pricing 1: 1=0,003, 50=0,001, 200=0,001, 1000=0,001 (EUR); ComponentLink1URL: http://www.newark.com/pdfs/datasheets/spc/TA-677.pdf; ComponentLink1Description: http://www.newark.com/pdfs/datasheets/spc/TA-677.pdf; Supplier Part Number 1: 1631399
footprint 0402
pins: 1, 2

## 33ohmx8_1/16W5%smd
designator RP?  Supplier Part Number 1: Y1330CT-ND  (hidden comment: 33ohmx8_1/16W5%smd)
Resistor 33ohmx8 1/16W 5% Array SMD; TIIntPartnumber: 1R0196; MfrNum: EXB-2HV330JV; Mfr: Panasonic; Cost10K: 0.02465; Cost100: 0.007; Vendor: Digikey; Descriptive_Text: Resistor 33ohmx8 1/16W 5% Array SMD; PartName: 33ohmx8_1/16W5%smd; DescriptiveText: Resistor 33ohmx8 1/16W 5% Array SMD; Supplier 1: Digi-Key
footprint sm_rpak_exb-2hv
pins: 1, 2, 3, 4, 5, 6, 7, 8, 9, 10, 11, 12, 13, 14, 15, 16

## 33ohmx8_1/16W5%smd_1
designator RP?, comment Supplier Part Number 1: Y1330CT-ND  (hidden comment: 33ohmx8_1/16W5%smd)
Resistor 33ohmx8 1/16W 5% Array SMD; TIIntPartnumber: 1R0196; MfrNum: EXB-2HV330JV; Mfr: Panasonic; Cost10K: 0.02465; Cost100: 0.007; Vendor: Digikey; Descriptive_Text: Resistor 33ohmx8 1/16W 5% Array SMD; PartName: 33ohmx8_1/16W5%smd; DescriptiveText: Resistor 33ohmx8 1/16W 5% Array SMD; Supplier 1: Digi-Key
footprint sm_rpak_exb-2hv
pins: 1, 2, 3, 4, 5, 6, 7, 8, 9, 10, 11, 12, 13, 14, 15, 16

## 47NF,16V
designator C?
AVX - 0805YC473KAT2A - CAP, MLCC, X7R, 47NF, 16V, 0805; Capacitance: 0.047; Capacitance Tolerance: ± 10%; Dielectric Characteristic: X7; Voltage Rating: 16; Ceramic Capacitor Case: 0805 [2012 Metric]; SVHC: No SVHC (16-Jun-2014); Capacitor Case Style: 0805 [2012 Metric]<!--FANDB--><div class="features-and-benefits-container"></div>; Supplier 1: Farnell; Manufacturer: AVX; Manufacturer Part Number: 0805YC473KAT2A; RoHS: YES; Stock 1: 6980; Pricing 1: 10=0,108, 100=0,0858, 500=0,0676, 1000=0,0507, 4000=0,0351 (EUR); Product Range: -; Operating Temperature Min: -55; Operating Temperature Max: 125; Packaging: Cut Tape; MSL: MSL 1 - Unlimited; Capacitance Tolerance ±: ± 10%; ComponentLink1URL: http://www.farnell.com/datasheets/1679506.pdf; ComponentLink1Description: http://www.farnell.com/datasheets/1679506.pdf; Supplier Part Number 1: 2332821
footprint 0805
pins: 1, 2

## 47NF,16V_1
designator C?
AVX - 0805YC473KAT2A - CAP, MLCC, X7R, 47NF, 16V, 0805; Capacitance: 0.047; Capacitance Tolerance: ± 10%; Dielectric Characteristic: X7; Voltage Rating: 16; Ceramic Capacitor Case: 0805 [2012 Metric]; SVHC: No SVHC (16-Jun-2014); Capacitor Case Style: 0805 [2012 Metric]<!--FANDB--><div class="features-and-benefits-container"></div>; Supplier 1: Farnell; Manufacturer: AVX; Manufacturer Part Number: 0805YC473KAT2A; RoHS: YES; Stock 1: 6980; Pricing 1: 10=0,108, 100=0,0858, 500=0,0676, 1000=0,0507, 4000=0,0351 (EUR); Product Range: -; Operating Temperature Min: -55; Operating Temperature Max: 125; Packaging: Cut Tape; MSL: MSL 1 - Unlimited; Capacitance Tolerance ±: ± 10%; ComponentLink1URL: http://www.farnell.com/datasheets/1679506.pdf; ComponentLink1Description: http://www.farnell.com/datasheets/1679506.pdf; Supplier Part Number 1: 2332821
footprint 0805
pins: 1, 2

## 47R
designator R?
Thick Film Resistors - SMD 0805 47ohms 1% Anti-Surge 0.5W; Manufacturer: Panasonic; Manufacturer Part Number: ERJ-P6WF47R0V; Power Rating: 500 mW (1/2 W); Voltage Rating: 150 V; Case Height: 0.65 mm; Case Length: 2 mm; Case Width: 1.25 mm; Product Status: New Product; Supplier 1: Mouser; RoHS: RoHS Compliant; Category: Thick Film Resistors - SMD; Stock 1: 9957; Pricing 1: 1=0.805, 10=0.336, 100=0.188, 1000=0.140, 5000=0.079, 10000=0.075 (USD); Operating Temperature Range: - 55 C to + 155 C; Package/Case: 0805 (2012 metric); Packaging: Reel; Product: Thick Film Resistors SMD; Resistance: 47 Ohms; Series: ERJ P6W; Tolerance: 1 %; Type: Anti-Surge Thick Film Chip Resistors; Brand: Panasonic; Case Code - in: 0805; Case Code - mm: 2012; RoHS - Mouser: Y; Minimum Order Quantity: 1; Reeling: True; ComponentLink1URL: http://www.mouser.com/ds/2/315/Panasonic_ERJ__P6W-368903.pdf; ComponentLink1Description: http://www.mouser.com/ds/2/315/Panasonic_ERJ__P6W-368903.pdf; Supplier Part Number 1: 667-ERJ-P6WF47R0V
footprint R0805
pins: 1, 2

## 47R_1
designator R?, comment 47R
Thick Film Resistors - SMD 0805 47ohms 1% Anti-Surge 0.5W; Manufacturer: Panasonic; Manufacturer Part Number: ERJ-P6WF47R0V; Power Rating: 500 mW (1/2 W); Voltage Rating: 150 V; Case Height: 0.65 mm; Case Length: 2 mm; Case Width: 1.25 mm; Product Status: New Product; Supplier 1: Mouser; RoHS: RoHS Compliant; Category: Thick Film Resistors - SMD; Stock 1: 9957; Pricing 1: 1=0.805, 10=0.336, 100=0.188, 1000=0.140, 5000=0.079, 10000=0.075 (USD); Operating Temperature Range: - 55 C to + 155 C; Package/Case: 0805 (2012 metric); Packaging: Reel; Product: Thick Film Resistors SMD; Resistance: 47 Ohms; Series: ERJ P6W; Tolerance: 1 %; Type: Anti-Surge Thick Film Chip Resistors; Brand: Panasonic; Case Code - in: 0805; Case Code - mm: 2012; RoHS - Mouser: Y; Minimum Order Quantity: 1; Reeling: True; ComponentLink1URL: http://www.mouser.com/ds/2/315/Panasonic_ERJ__P6W-368903.pdf; ComponentLink1Description: http://www.mouser.com/ds/2/315/Panasonic_ERJ__P6W-368903.pdf; Supplier Part Number 1: 667-ERJ-P6WF47R0V
footprint R0805
pins: 1, 2

## 47UH,2.71A
designator L?
Fixed Inductors 47uH 3.2A 0.074ohms; Manufacturer: Bussmann / Eaton; Manufacturer Part Number: DR125-470-R; Core Material: Ferrite; Maximum DC Current: 1.41 A; Maximum DC Resistance: 216 mOhms; Shielding: Shielded; Tolerance: 20 %; Case Height: 6 mm; Case Length: 12.5 mm; Supplier 1: Mouser; RoHS: RoHS Compliant; Category: Fixed Inductors; Stock 1: 289; Pricing 1: 1=2.15, 50=1.72, 100=1.63, 600=1.03, 1200=0.915, 2400=0.887, 5400=0.762 (AUD); Inductance: 47 uH; Operating Temperature Range: - 40 C to + 125 C; Packaging: Reel; Product: Power Inductors; Series: DR; Termination Style: SMD/SMT; Brand: Bussmann / Eaton; Case Width: 12.5 mm; Product Category: SMD Low Profile Power Inductors; Standard Pack Qty: 600; RoHS - Mouser: Y; Minimum Order Quantity: 1; Reeling: True; ComponentLink1URL: http://www.mouser.com/ds/2/87/Bus_Elx_DS_4315_DR_Series-248110.pdf; ComponentLink1Description: http://www.mouser.com/ds/2/87/Bus_Elx_DS_4315_DR_Series-248110.pdf; Supplier Part Number 1: 704-DR125-470-R
footprint indkrt_2
pins: 1, 2

## 47UH,2.71A_1
designator L?, comment 47UH,2.71A
Fixed Inductors 47uH 3.2A 0.074ohms; Manufacturer: Bussmann / Eaton; Manufacturer Part Number: DR125-470-R; Core Material: Ferrite; Maximum DC Current: 1.41 A; Maximum DC Resistance: 216 mOhms; Shielding: Shielded; Tolerance: 20 %; Case Height: 6 mm; Case Length: 12.5 mm; Supplier 1: Mouser; RoHS: RoHS Compliant; Category: Fixed Inductors; Stock 1: 289; Pricing 1: 1=2.15, 50=1.72, 100=1.63, 600=1.03, 1200=0.915, 2400=0.887, 5400=0.762 (AUD); Inductance: 47 uH; Operating Temperature Range: - 40 C to + 125 C; Packaging: Reel; Product: Power Inductors; Series: DR; Termination Style: SMD/SMT; Brand: Bussmann / Eaton; Case Width: 12.5 mm; Product Category: SMD Low Profile Power Inductors; Standard Pack Qty: 600; RoHS - Mouser: Y; Minimum Order Quantity: 1; Reeling: True; ComponentLink1URL: http://www.mouser.com/ds/2/87/Bus_Elx_DS_4315_DR_Series-248110.pdf; ComponentLink1Description: http://www.mouser.com/ds/2/87/Bus_Elx_DS_4315_DR_Series-248110.pdf; Supplier Part Number 1: 704-DR125-470-R
footprint indkrt_2
pins: 1, 2

## 49.9
designator R?
PANASONIC - ERJP06F49R9V - RESISTOR, THICK FILM, 49.9 OHM, 0.5W, 1%; Product Range: PANASONIC - ERJ Series; Resistance: 49.9; Power Rating: 500; Resistor Case Style: 0805 [2012 Metric]; Temperature Coefficient: ± 100; Voltage Rating: 400; SVHC: No SVHC (16-Dec-2013; Supplier 1: Farnell; Manufacturer: PANASONIC; Manufacturer Part Number: ERJP06F49R9V; RoHS: YES; Stock 1: 3370; Pricing 1: 25=0,078, 100=0,0728, 500=0,0429, 1000=0,0312, 5000=0,0234 (EUR); Resistance Tolerance: ± 1%; Resistor Element Material: Thick Film; Packaging: Cut Tape; MSL: -; ComponentLink1URL: http://www.farnell.com/datasheets/1801181.pdf; ComponentLink1Description: http://www.farnell.com/datasheets/1801181.pdf; ComponentLink2URL: http://www.farnell.com/datasheets/1718548.pdf; ComponentLink2Description: http://www.farnell.com/datasheets/1718548.pdf; Supplier Part Number 1: 2312274
footprint R0805
pins: 1, 2

## 49.9_1
designator R?
PANASONIC - ERJP06F49R9V - RESISTOR, THICK FILM, 49.9 OHM, 0.5W, 1%; Product Range: PANASONIC - ERJ Series; Resistance: 49.9; Power Rating: 500; Resistor Case Style: 0805 [2012 Metric]; Temperature Coefficient: ± 100; Voltage Rating: 400; SVHC: No SVHC (16-Dec-2013; Supplier 1: Farnell; Manufacturer: PANASONIC; Manufacturer Part Number: ERJP06F49R9V; RoHS: YES; Stock 1: 3370; Pricing 1: 25=0,078, 100=0,0728, 500=0,0429, 1000=0,0312, 5000=0,0234 (EUR); Resistance Tolerance: ± 1%; Resistor Element Material: Thick Film; Packaging: Cut Tape; MSL: -; ComponentLink1URL: http://www.farnell.com/datasheets/1801181.pdf; ComponentLink1Description: http://www.farnell.com/datasheets/1801181.pdf; ComponentLink2URL: http://www.farnell.com/datasheets/1718548.pdf; ComponentLink2Description: http://www.farnell.com/datasheets/1718548.pdf; Supplier Part Number 1: 2312274
footprint 0402
pins: 1, 2

## 49.9K
designator R?
RES 49.9K OHM 1/8W .1% 0805 SMD; Manufacturer: Panasonic Electronic Components; Manufacturer Part Number: ERA-6AEB4992V; Tolerance: ±0.1%; Power (Watts): 0.125W, 1/8W; Temperature Coefficient: ±25ppm/°C; Supplier 1: Digi-Key; RoHS: RoHS Compliant; Category: Resistors; Stock 1: 25646; Pricing 1: 1=0.63, 50=0.2494, 100=0.1924, 250=0.14964, 500=0.10546, 1000=0.07695 (USD); Packaging: Cut Tape (CT); Resistance (Ohms): 49.9k; Composition: Thin Film; Features: Automotive AEC-Q200 Qualified; Package / Case: 0805 (2012 Metric); Supplier Device Package: 0805; Size / Dimension: 0.079" L x 0.049" W (2.00mm x 1.25mm); Height: 0.024" (0.60mm); Number of Terminations: 2; ComponentLink1URL: http://industrial.panasonic.com/www-cgi/jvcr13pz.cgi?E+PZ+3+AOA0026+ERA6AEB4992V+7+WW; ComponentLink1Description: http://industrial.panasonic.com/www-cgi/jvcr13pz.cgi?E+PZ+3+AOA0026+ERA6AEB4992V+7+WW; Supplier Part Number 1: P49.9KDACT-ND
footprint R0805
pins: 1, 2

## 49.9K_1
designator R?
RES 49.9K OHM 1/8W .1% 0805 SMD; Manufacturer: Panasonic Electronic Components; Manufacturer Part Number: ERA-6AEB4992V; Tolerance: ±0.1%; Power (Watts): 0.125W, 1/8W; Temperature Coefficient: ±25ppm/°C; Supplier 1: Digi-Key; RoHS: RoHS Compliant; Category: Resistors; Stock 1: 25646; Pricing 1: 1=0.63, 50=0.2494, 100=0.1924, 250=0.14964, 500=0.10546, 1000=0.07695 (USD); Packaging: Cut Tape (CT); Resistance (Ohms): 49.9k; Composition: Thin Film; Features: Automotive AEC-Q200 Qualified; Package / Case: 0805 (2012 Metric); Supplier Device Package: 0805; Size / Dimension: 0.079" L x 0.049" W (2.00mm x 1.25mm); Height: 0.024" (0.60mm); Number of Terminations: 2; ComponentLink1URL: http://industrial.panasonic.com/www-cgi/jvcr13pz.cgi?E+PZ+3+AOA0026+ERA6AEB4992V+7+WW; ComponentLink1Description: http://industrial.panasonic.com/www-cgi/jvcr13pz.cgi?E+PZ+3+AOA0026+ERA6AEB4992V+7+WW; Supplier Part Number 1: P49.9KDACT-ND
footprint R0805
pins: 1, 2

## 68UH,TH
designator L?
footprint TH
pins: 1, 2

## 68UH,TH_1
designator L?
footprint TH
pins: 1, 2

## 100
designator R?
RES 100 OHM 1/8W 1% 0805 SMD; Manufacturer: Rohm Semiconductor; Manufacturer Part Number: MCR10ERTF1000; Resistance (Ohms): 100; Power (Watts): 0.125W, 1/8W; Temperature Coefficient: ±100ppm/°C; Supplier 1: Digi-Key; RoHS: RoHS Compliant; Category: Resistors; Stock 1: 27803; Pricing 1: 1=0.1, 10=0.027, 25=0.0196, 100=0.0109, 250=0.00832, 500=0.00666, 1000=0.0049 (USD); Packaging: Cut Tape (CT); Tolerance: ±1%; Composition: Thick Film; Features: -; Package / Case: 0805 (2012 Metric); Supplier Device Package: 0805 (2012 Metric); Size / Dimension: 0.079" L x 0.049" W (2.00mm x 1.25mm); Height: 0.024" (0.60mm); Number of Terminations: 2; ComponentLink1URL: http://rohmfs.rohm.com/en/products/databook/datasheet/passive/resistor/chip_resistor/mcr_g.pdf; ComponentLink1Description: http://rohmfs.rohm.com/en/products/databook/datasheet/passive/resistor/chip_resistor/mcr_g.pdf; Supplier Part Number 1: RHM100CHCT-ND
footprint R0805
pins: 1, 2

## 100_1
designator R?
RES 100 OHM 1/8W 1% 0805 SMD; Manufacturer: Rohm Semiconductor; Manufacturer Part Number: MCR10ERTF1000; Resistance (Ohms): 100; Power (Watts): 0.125W, 1/8W; Temperature Coefficient: ±100ppm/°C; Supplier 1: Digi-Key; RoHS: RoHS Compliant; Category: Resistors; Stock 1: 27803; Pricing 1: 1=0.1, 10=0.027, 25=0.0196, 100=0.0109, 250=0.00832, 500=0.00666, 1000=0.0049 (USD); Packaging: Cut Tape (CT); Tolerance: ±1%; Composition: Thick Film; Features: -; Package / Case: 0805 (2012 Metric); Supplier Device Package: 0805 (2012 Metric); Size / Dimension: 0.079" L x 0.049" W (2.00mm x 1.25mm); Height: 0.024" (0.60mm); Number of Terminations: 2; ComponentLink1URL: http://rohmfs.rohm.com/en/products/databook/datasheet/passive/resistor/chip_resistor/mcr_g.pdf; ComponentLink1Description: http://rohmfs.rohm.com/en/products/databook/datasheet/passive/resistor/chip_resistor/mcr_g.pdf; Supplier Part Number 1: RHM100CHCT-ND
footprint R0805
pins: 1, 2